# EAGLE library part 5077CR-16SMC2-BK-TR (library 5077CR-16SMC2-BK-TR)
Check availability <https://pricing.snapeda.com/parts/5077CR-16SMC2-BK-TR/Neltron/view-part?ref=eda>
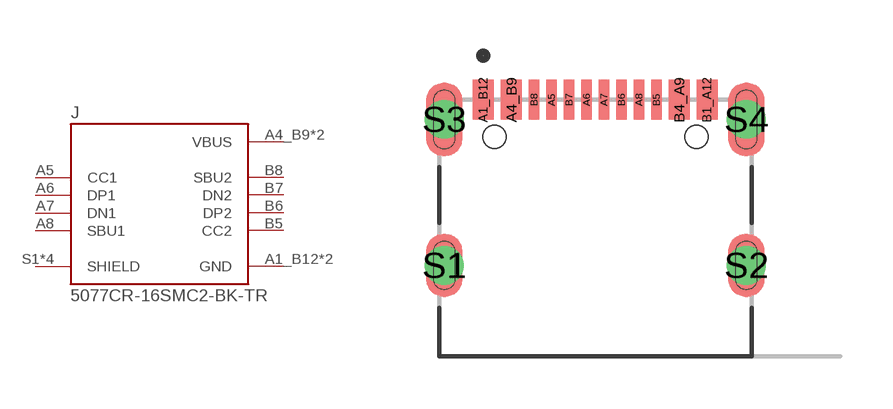
[diagram p0: symbol with the pads of NELTRON_5077CR-16SMC2-BK-TR; footprint NELTRON_5077CR-16SMC2-BK-TR]

Designator prefix J

## 5077CR-16SMC2-BK-TR (Availability: Not in stock; Check_prices: https://www.snapeda.com/parts/5077CR-16SMC2-BK-TR/Neltron/view-part/?ref=eda; Description: USB 3.1 C Type Female with Peg; MF: Neltron; MP: 5077CR-16SMC2-BK-TR; Package: Package; Price: None; SnapEDA_Link: https://www.snapeda.com/parts/5077CR-16SMC2-BK-TR/Neltron/view-part/?ref=snap)  [NELTRON_5077CR-16SMC2-BK-TR]
A1_B12  GND  pwr
A4_B9  VBUS  pwr
A5  CC1  pas
A6  DP1  pas
A7  DN1  pas
A8  SBU1  pas
B1_A12  GND  pwr
B4_A9  VBUS  pwr
B5  CC2  pas
B6  DP2  pas
B7  DN2  pas
B8  SBU2  pas
S1  SHIELD  pas
S2  SHIELD  pas
S3  SHIELD  pas
S4  SHIELD  pas

## Footprint NELTRON_5077CR-16SMC2-BK-TR (pad centres in mm)
smd 0.6 x 1.15: A1_B12 -3.2,1.065; A4_B9 -2.4,1.065; B1_A12 3.2,1.065; B4_A9 2.4,1.065
smd 0.3 x 1.15: A5 -1.25,1.065; A6 -0.25,1.065; A7 0.25,1.065; A8 1.25,1.065; B5 1.75,1.065; B6 0.75,1.065; B7 -0.75,1.065; B8 -1.75,1.065
drill 0.6 pad 1: S1 -4.32,-3.68; S2 4.32,-3.68; S3 -4.32,0.5; S4 4.32,0.5
hole 0.65 at -2.89,0
hole 0.65 at 2.89,0